# Altium footprint library roundsolutions.PCBLIB: 2 footprints
Each footprint in its own frame and in the unit in brackets; x right, y up, seen from the top. Pads: shape width x height; smd on the part's side, far side on the other; paste and mask are expansions set on the pad; w line width, h text height; cw(c..) or ccw(c..) is an arc to the next point about the centre after c.
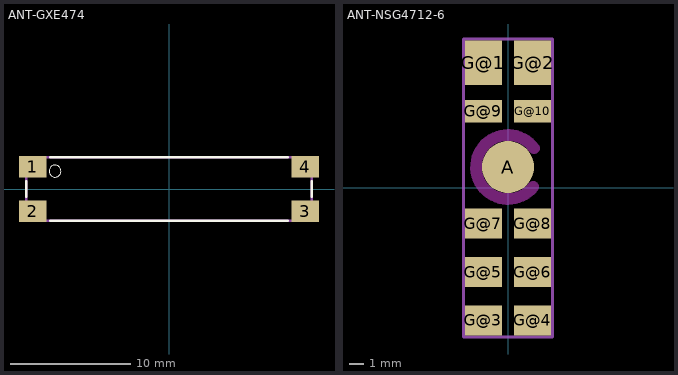
[diagram p0: the footprints below, top view; thin cyan lines are the x and y axes]

## ANT-GXE474 [mm]
pads (4):
  rect 2.3x1.8 smd: 1(-11.35,1.863) 2(-11.35,-1.85) 3(11.35,-1.85) 4(11.35,1.85)
Top Overlay:
  circle w0: c-9.5,1.5 r0.5
  lines w0.203: -11.9,-0.65 -11.9,0.65 ; -9.9,-2.65 9.9,-2.65 ; -9.9,2.65 9.9,2.65 ; 11.9,-0.65 11.9,0.65
Mechanical 16:
  lines w0.203: -11.9,-2.65 11.9,-2.65 11.9,2.65 -11.9,2.65 -11.9,-2.65

## ANT-NSG4712-6 [mm]
pads (11):
  rrect100% 3.5x3.5 smd: A(0,1.4)
  rect 2.5x3 smd: G@1(-1.65,8.4) G@2(1.65,8.4)
  rect 2.5x2 smd: G@3(-1.65,-8.9) G@4(1.65,-8.9) G@5(-1.65,-5.65) G@6(1.65,-5.65) G@7(-1.65,-2.4) G@8(1.65,-2.4)
  rect 2.5x1.5 smd: G@9(-1.65,5.15) G@10(1.65,5.15)
Top Layer keep-out:
  lines w0.78: 1.7,0.087 cw(c0,1.402) 1.75,2.65
Top Solder:
  circle w0: c0,1.4 r1.8
  rectangle: -2.9,6.9 -0.4,9.9
  rectangle: 0.4,6.9 2.9,9.9
  rectangle: -2.9,4.4 -0.4,5.9
  rectangle: 0.4,4.4 2.9,5.9
  rectangle: -2.9,-3.4 -0.4,-1.4
  rectangle: 0.4,-3.4 2.9,-1.4
  rectangle: -2.913,-6.662 -0.4,-4.65
  rectangle: 0.4,-6.65 2.9,-4.65
  rectangle: -3,-9.9 -0.4,-7.9
  rectangle: 0.4,-9.9 2.9,-7.9
Mechanical 16:
  lines w0.2: -3,-10 -3,10 3,10 3,-10 -3,-10